# Altium footprint library MERES.PcbLib: 90 footprints (part 2 of 6)
Each footprint in its own frame and in the unit in brackets; x right, y up, seen from the top. Pads: shape width x height; smd on the part's side, far side on the other; paste and mask are expansions set on the pad; w line width, h text height; cw(c..) or ccw(c..) is an arc to the next point about the centre after c.
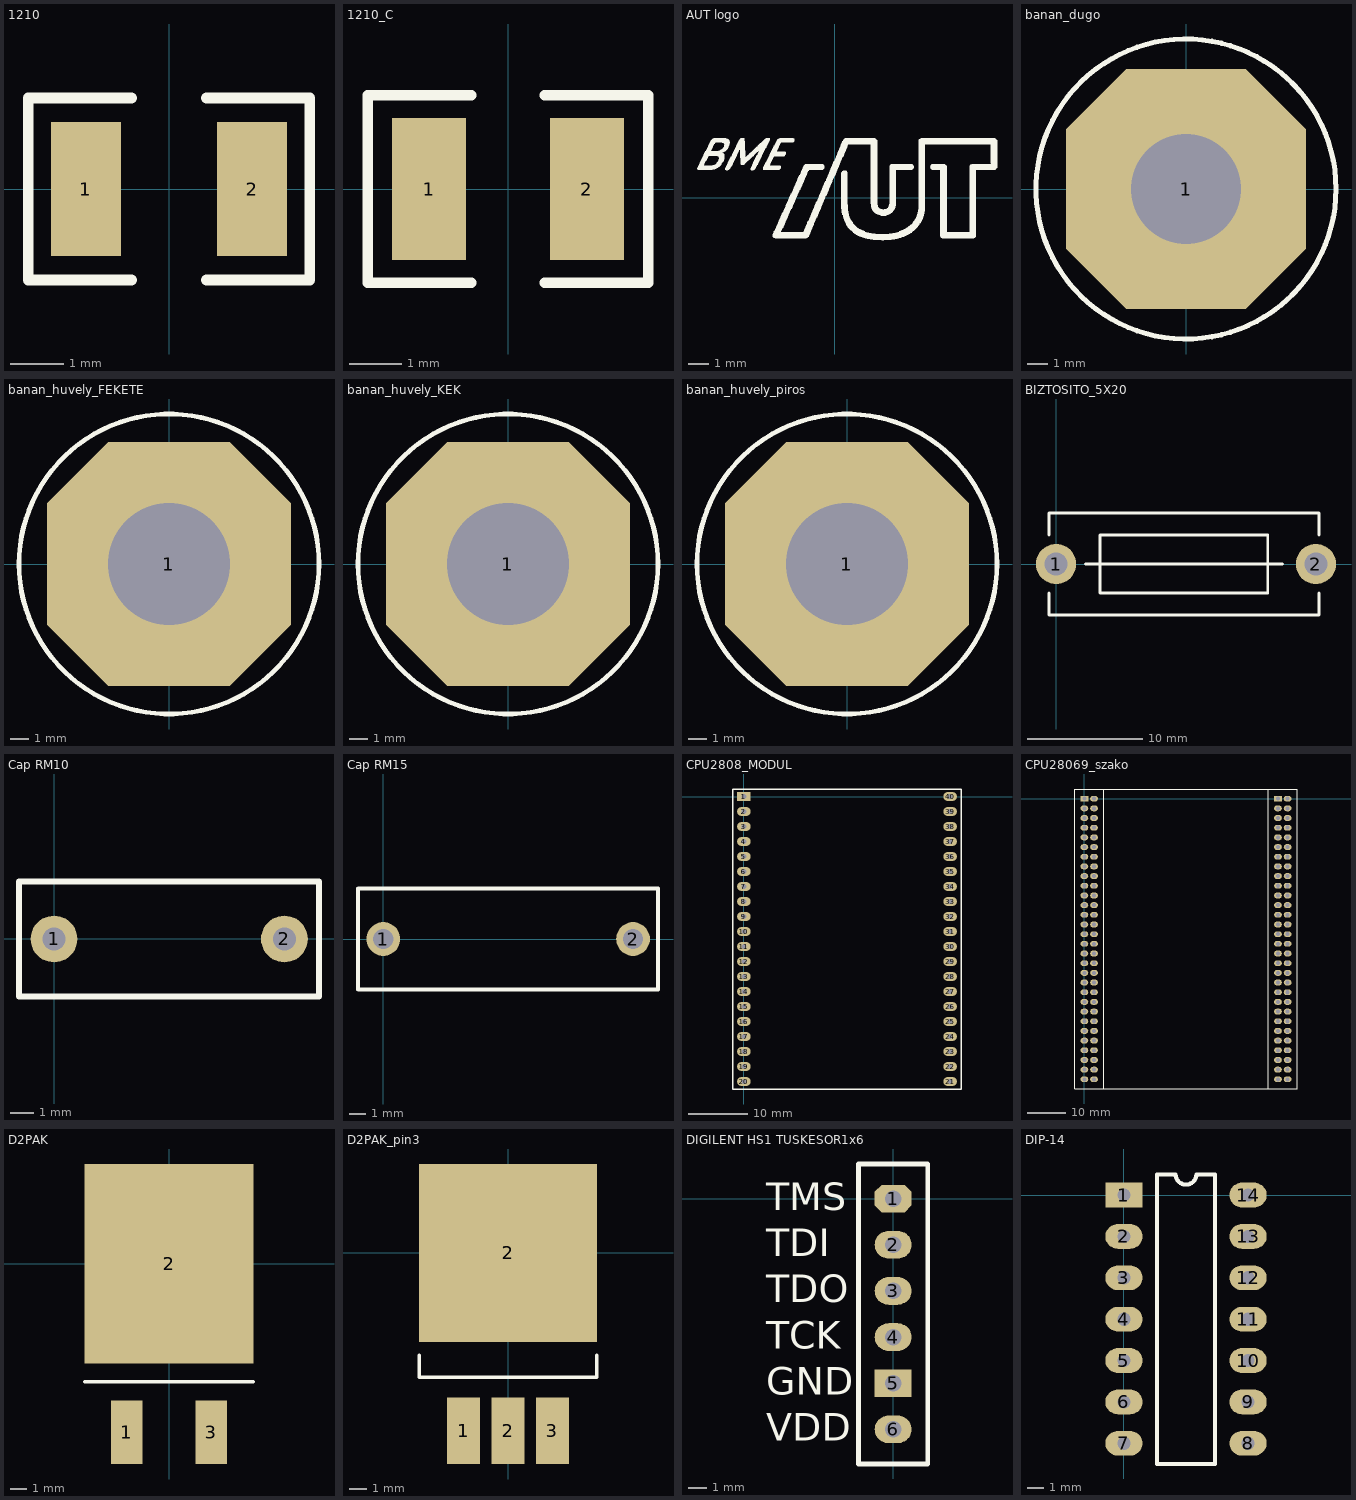
[diagram p1: the footprints below, top view; thin cyan lines are the x and y axes]

## 1210 [mm]
pads (2):
  rect 1.3x2.5 smd: 1(-1.55,0) 2(1.55,0)
Top Overlay:
  lines w0.2: -0.7,-1.7 -2.625,-1.7 -2.625,1.7 -0.7,1.7 ; 0.7,-1.7 2.625,-1.7 2.625,1.7 0.7,1.7
3D body: height 1.3, standoff 0, extent -1.625,-1.301 1.575,1.199

## 1210_C [mm]
pads (2):
  rect 1.4x2.7 smd: 1(-1.5,0) 2(1.5,0)
Top Overlay:
  lines w0.2: -0.7,-1.778 -2.667,-1.778 -2.667,1.778 -0.7,1.778 ; 0.7,-1.778 2.667,-1.778 2.667,1.778 0.7,1.778
3D body: height 1.3, standoff 0, extent -1.6,-1.25 1.6,1.25

## AUT logo [mil]
Top Overlay:
  drawing of 1476 lines, arcs and shapes, not listed

## banan_dugo [mm]
height 14
pads (1):
  oct 12x12 hole 5.5: 1(0,0)
Top Overlay:
  circle w0.254: c0,0 r7.5
3D body: height 30, standoff -10, extent -2.009,-2.009 2.009,2.009

## banan_huvely_FEKETE [mm]
height 14
pads (1):
  oct 13x13 hole 6.5: 1(0,0)
Top Overlay:
  circle w0.254: c0,0 r8
3D body: height 7.5, standoff 0, extent -6.51,-6.51 6.51,6.51
3D body: height 8.5, standoff 7.5, extent -3.761,-3.761 3.761,3.761

## banan_huvely_KEK [mm]
height 14
pads (1):
  oct 13x13 hole 6.5: 1(0,0)
Top Overlay:
  circle w0.254: c0,0 r8
3D body: height 7.5, standoff 0, extent -6.51,-6.51 6.51,6.51
3D body: height 8.5, standoff 7.5, extent -3.761,-3.761 3.761,3.761

## banan_huvely_piros [mm]
height 14
pads (1):
  oct 13x13 hole 6.5: 1(0,0)
Top Overlay:
  circle w0.254: c0,0 r8
3D body: height 8.5, standoff 7.5, extent -3.761,-3.761 3.761,3.761
3D body: height 7.5, standoff 0, extent -6.51,-6.51 6.51,6.51

## BIZTOSITO_5X20 [mm]
pads (2):
  round 3.5 hole 2: 1(0,0) 2(22.6,0)
Top Overlay:
  lines w0.254: -0.635,-2.54 -0.635,-4.445 22.86,-4.445 22.86,-2.54 ; -0.635,2.54 -0.635,4.445 22.86,4.445 22.86,2.54 ; 2.54,0 19.685,0 ; 3.81,-2.54 3.81,2.54 18.415,2.54 18.415,-2.54 3.81,-2.54
3D body: height 13.24, standoff -5.6, extent -0.178,-4.373 22.982,4.627

## Cap RM10 [mil] "MKS4D041003F00KSSD"
pads (2):
  round 80 hole 39.37: 1(0,0) 2(393.7,0)
Top Overlay:
  lines w10: -59.84,-98.43 452.76,-98.43 452.76,98.43 -59.84,98.43 -59.84,50 -59.84,-98.43
3D body: height 433.07, standoff 0, extent -59.82,-98.41 452.74,98.41
3D body: height 137.8, standoff -98.43, extent -20.05,-20.05 20.06,20.05
3D body: height 137.8, standoff -98.43, extent 373.65,-20.05 413.76,20.05

## Cap RM15 [mil] "FOL X1 SX1-S104K300S1"
pads (2):
  round 80 hole 48: 1(0,0) 2(590.55,0)
Top Overlay:
  lines w10: -59.84,-118.11 -59.84,50 -59.84,118.11 ; -59.06,-119.69 649.61,-119.69 ; -59.06,119.69 649.61,119.69 ; 649.61,-118.11 649.61,118.11
3D body: height 472.44, standoff 19.68, extent -64.84,-124.69 654.61,124.69
3D body: height 137.8, standoff -98.43, extent 570.51,-20.05 610.61,20.05
3D body: height 137.8, standoff -98.43, extent -20.05,-20.05 20.06,20.05

## CPU2808_MODUL [mil]
pads (40):
  rect 90x60 hole 32: 1(0,0)
  oval 90x60 hole 32: 2(0,-100) 3(0,-200) 4(0,-300) 5(0,-400) 6(0,-500) 7(0,-600) 8(0,-700) 9(0,-800) 10(0,-900) 11(0,-1000) 12(0,-1100) 13(0,-1200) 14(0,-1300) 15(0,-1400) 16(0,-1500) 17(0,-1600) 18(0,-1700) 19(0,-1800) 20(0,-1900) 21(1375,-1900) 22(1375,-1800) 23(1375,-1700) 24(1375,-1600) 25(1375,-1500) 26(1375,-1400) 27(1375,-1300) 28(1375,-1200) 29(1375,-1100) 30(1375,-1000) 31(1375,-900) 32(1375,-800) 33(1375,-700) 34(1375,-600) 35(1375,-500) 36(1375,-400) 37(1375,-300) 38(1375,-200) 39(1375,-100) 40(1375,0)
Top Overlay:
  lines w10: -75,-1950 1450,-1950 1450,50 700,50 -75,50 -75,-1950
3D body: height 393.7, standoff 196.85, extent -80,-1955 1455,55

## CPU28069_szako [mil]
pads (120):
  rect 80x60 hole 42: 1(0,0) 61(2000,0)
  oval 80x60 hole 42: 2(100,0) 3(0,-100) 4(100,-100) 5(0,-200) 6(100,-200) 7(0,-300) 8(100,-300) 9(0,-400) 10(100,-400) 11(0,-500) 12(100,-500) 13(0,-600) 14(100,-600) 15(0,-700) 16(100,-700) 17(0,-800) 18(100,-800) 19(0,-900) 20(100,-900) 21(0,-1000) 22(100,-1000) 23(0,-1100) 24(100,-1100) 25(0,-1200) 26(100,-1200) 27(0,-1300) 28(100,-1300) 29(0,-1400) 30(100,-1400) 31(0,-1500) 32(100,-1500) 33(0,-1600) 34(100,-1600) 35(0,-1700) 36(100,-1700) 37(0,-1800) 38(100,-1800) 39(0,-1900) 40(100,-1900) 41(0,-2000) 42(100,-2000) 43(0,-2100) 44(100,-2100) 45(0,-2200) 46(100,-2200) 47(0,-2300) 48(100,-2300) 49(0,-2400) 50(100,-2400) 51(0,-2500) 52(100,-2500) 53(0,-2600) 54(100,-2600) 55(0,-2700) 56(100,-2700) 57(0,-2800) 58(100,-2800) 59(0,-2900) 60(100,-2900) 62(2100,0) 63(2000,-100) 64(2100,-100) 65(2000,-200) 66(2100,-200) 67(2000,-300) 68(2100,-300) 69(2000,-400) 70(2100,-400) 71(2000,-500) 72(2100,-500) 73(2000,-600) 74(2100,-600) 75(2000,-700) 76(2100,-700) 77(2000,-800) 78(2100,-800) 79(2000,-900) 80(2100,-900) 81(2000,-1000) 82(2100,-1000) 83(2000,-1100) 84(2100,-1100) 85(2000,-1200) 86(2100,-1200) 87(2000,-1300) 88(2100,-1300) 89(2000,-1400) 90(2100,-1400) 91(2000,-1500) 92(2100,-1500) 93(2000,-1600) 94(2100,-1600) 95(2000,-1700) 96(2100,-1700) 97(2000,-1800) 98(2100,-1800) 99(2000,-1900) 100(2100,-1900) 101(2000,-2000) 102(2100,-2000) 103(2000,-2100) 104(2100,-2100) 105(2000,-2200) 106(2100,-2200) 107(2000,-2300) 108(2100,-2300) 109(2000,-2400) 110(2100,-2400) 111(2000,-2500) 112(2100,-2500) 113(2000,-2600) 114(2100,-2600) 115(2000,-2700) 116(2100,-2700) 117(2000,-2800) 118(2100,-2800) 119(2000,-2900) 120(2100,-2900)
Top Overlay:
  lines w10: -100,-3000 -100,100 ; -100,-3000 2200,-3000 ; -100,-3000 200,-3000 200,100 -100,100 ; -100,-3000 -100,100 ; -100,100 2200,100 ; 2200,-3000 2200,100 ; 2200,-3000 2200,100 ; 2200,-3000 1900,-3000 1900,100 2200,100
3D body: height 236.22, standoff 0, extent -99.98,-2999.98 199.98,99.98
3D body: height 236.22, standoff 0, extent 1900.02,-2999.98 2199.98,99.98
3D body: height 708.66, standoff 236.22, extent -105,-3005 2205,105

## D2PAK [mm]
pads (3):
  rect 1.905x3.81 smd: 1(-2.54,-10.16) 3(2.54,-10.16)
  rect 10.16x12 smd: 2(0,0)
Top Overlay:
  lines w0.2: -5.08,-7.112 5.08,-7.112
3D body: height 4.92, standoff -0.09, extent -4.98,-10.416 5.18,4.848

## D2PAK_pin3 [mil]
pads (4):
  rect 75x150 smd: 1(-100,-400) 2(0,-400) 3(100,-400)
  rect 400x400 smd: 2(0,0)
Top Overlay:
  lines w7.87: -200,-230 -200,-280 200,-280 200,-230
3D body: height 193.9, standoff -3.66, extent -196.06,-410.08 203.94,190.85

## DIGILENT HS1 TUSKESOR1x6 [mil]
pads (6):
  oct 80x60 hole 36: 1(0,0)
  oval 80x60 hole 36: 2(0,-100) 3(0,-200) 4(0,-300) 6(0,-500)
  rect 80x60 hole 36: 5(0,-400)
Top Overlay:
  lines w10: -75,-575 75,-575 75,75 -75,75 -75,-575
  text "VDD" at -275,-525 h60
  text "GND" at -275,-425 h60
  text "TCK" at -275,-325 h60
  text "TDO" at -275,-225 h60
  text "TDI" at -275,-125 h60
  text "TMS" at -275,-25 h60

## DIP-14 [mil]
pads (14):
  rect 90x60 hole 32: 1(0,0)
  oval 90x60 hole 32: 2(0,-100) 3(0,-200) 4(0,-300) 5(0,-400) 6(0,-500) 7(0,-600) 8(300,-600) 9(300,-500) 10(300,-400) 11(300,-300) 12(300,-200) 13(300,-100) 14(300,0)
Top Overlay:
  lines w10: 80,-650 220,-650 220,50 175,50 cw(c150,50) 125,50 80,50 80,-650
3D body: height 159.45, standoff -115.35, extent -7.48,-675 307.48,75